# EAGLE library part AS-ITM-00181 (library tinycircuits)
IC RTC CLK/CALENDAR I2C 8-USOP
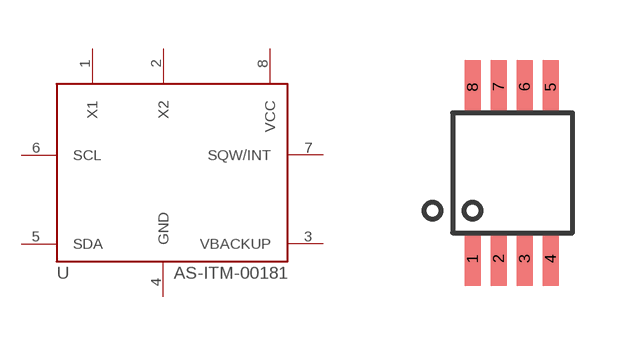
[diagram p78: symbol with the pads of 8-USOP; footprint 8-USOP]

Designator prefix U

## AS-ITM-00181 (PARTNO: AS-ITM-00181; VALUE: DS1339)  [8-USOP]
1  X1
2  X2
3  VBACKUP
4  GND
5  SDA
6  SCL
7  SQW/INT
8  VCC

## Footprint 8-USOP (pad centres in mm)
smd 0.4 x 1.35: 1 -1,-2.1; 2 -0.35,-2.1; 3 0.3,-2.1; 4 0.95,-2.1; 5 0.95,2.2; 6 0.3,2.2; 7 -0.35,2.2; 8 -1,2.2